# Altium footprint library PCB1.PcbLib: 18 footprints (part 1 of 2)
Each footprint in its own frame and in the unit in brackets; x right, y up, seen from the top. Pads: shape width x height; smd on the part's side, far side on the other; paste and mask are expansions set on the pad; w line width, h text height; cw(c..) or ccw(c..) is an arc to the next point about the centre after c.
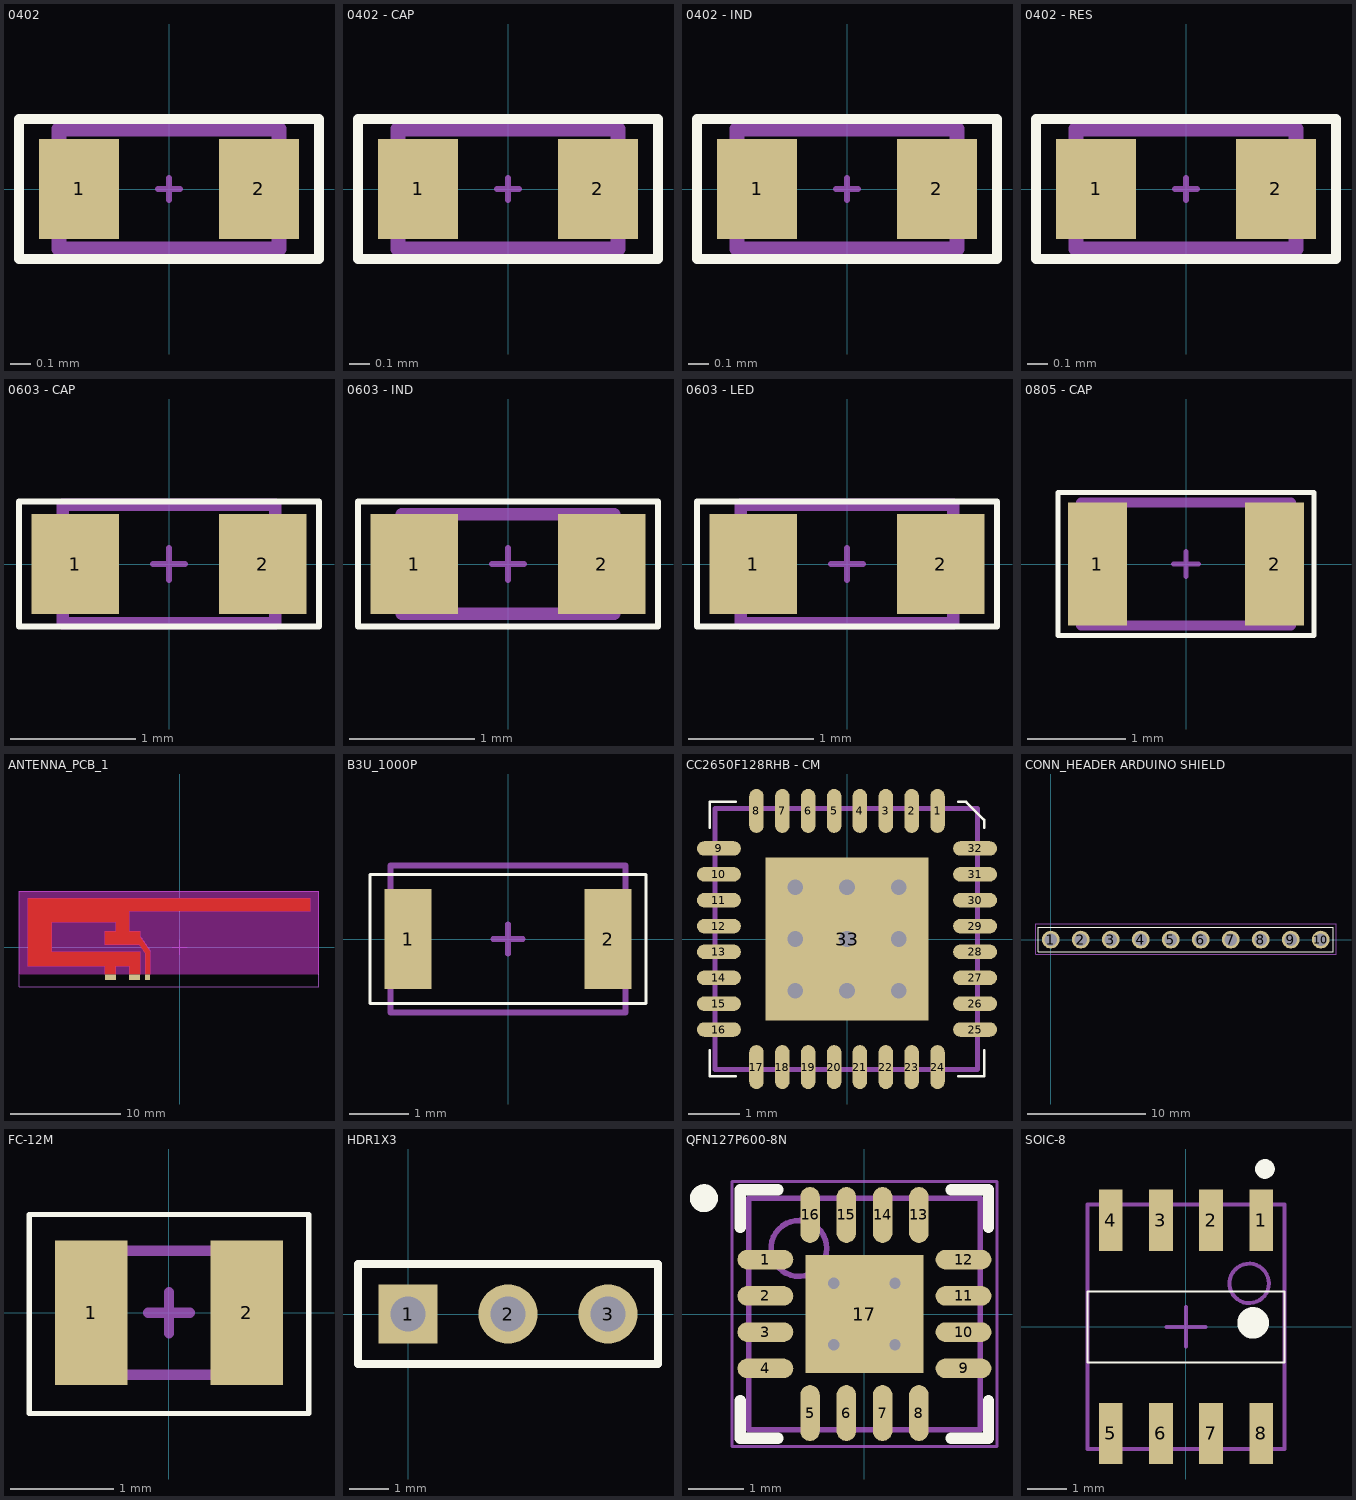
[diagram p0: the footprints below, top view; thin cyan lines are the x and y axes]

## 0402 [mm]
height 0.55
pads (2):
  rect 0.4x0.5 smd: 1(-0.45,0) 2(0.45,0)
Top Overlay:
  lines w0.051: -0.75,-0.35 -0.75,0.35 0.75,0.35 0.75,-0.35 -0.75,-0.35
Mechanical 13:
  lines w0.076: -0.55,-0.3 0.55,-0.3 0.55,0.3 -0.55,0.3 -0.55,-0.3
Mechanical 15:
  lines w0.03: -0.054,0 0.054,0 ; 0,-0.054 0,0.054

## 0402 - CAP [mm]
height 0.55
pads (2):
  rect 0.4x0.5 smd: 1(-0.45,0) 2(0.45,0)
Top Overlay:
  lines w0.051: -0.75,-0.35 -0.75,0.35 0.75,0.35 0.75,-0.35 -0.75,-0.35
Mechanical 13:
  lines w0.076: -0.55,-0.3 0.55,-0.3 0.55,0.3 -0.55,0.3 -0.55,-0.3
Mechanical 15:
  lines w0.03: -0.054,0 0.054,0 ; 0,-0.054 0,0.054
3D body: height 0.49, standoff -0.01, extent -0.5,-0.25 0.5,0.25

## 0402 - IND [mm]
height 0.55
pads (2):
  rect 0.4x0.5 smd: 1(-0.45,0) 2(0.45,0)
Top Overlay:
  lines w0.051: -0.75,-0.35 0.75,-0.35 0.75,0.35 -0.75,0.35 -0.75,-0.35
Mechanical 13:
  lines w0.076: -0.55,-0.3 -0.55,0.3 0.55,0.3 0.55,-0.3 -0.55,-0.3
Mechanical 15:
  lines w0.03: -0.054,0 0.054,0 ; 0,-0.054 0,0.054
3D body: height 0.49, standoff -0.01, extent -0.49,-0.249 0.51,0.251

## 0402 - RES [mm]
height 0.55
pads (2):
  rect 0.4x0.5 smd: 1(-0.45,0) 2(0.45,0)
Top Overlay:
  lines w0.051: -0.75,-0.35 0.75,-0.35 0.75,0.35 -0.75,0.35 -0.75,-0.35
Mechanical 13:
  lines w0.076: -0.55,-0.3 -0.55,0.3 0.55,0.3 0.55,-0.3 -0.55,-0.3
Mechanical 15:
  lines w0.03: -0.054,0 0.054,0 ; 0,-0.054 0,0.054
3D body: height 0.29, standoff -0.01, extent -0.5,-0.25 0.5,0.25

## 0603 - CAP [mm]
pads (2):
  rect 0.7x0.8 smd: 1(-0.75,0) 2(0.75,0)
Top Overlay:
  lines w0.051: -1.2,-0.5 -1.2,0.5 1.2,0.5 1.2,-0.5 -1.2,-0.5
Mechanical 13:
  lines w0.1: -0.85,-0.475 -0.85,0.475 0.85,0.475 0.85,-0.475 -0.85,-0.475
Mechanical 15:
  lines w0.048: -0.127,0 0.127,0 ; 0,-0.127 0,0.127
3D body: height 0.49, standoff -0.01, extent -0.825,-0.406 0.775,0.394

## 0603 - IND [mm]
pads (2):
  rect 0.7x0.8 smd: 1(-0.75,0) 2(0.75,0)
Top Overlay:
  lines w0.051: -1.2,-0.5 -1.2,0.5 1.2,0.5 1.2,-0.5 -1.2,-0.5
Mechanical 13:
  lines w0.1: -0.85,-0.4 -0.85,0.4 0.85,0.4 0.85,-0.4 -0.85,-0.4
Mechanical 15:
  lines w0.048: -0.127,0 0.127,0 ; 0,-0.127 0,0.127
3D body: height 0.79, standoff -0.01, extent -0.8,-0.4 0.8,0.4

## 0603 - LED [mm]
pads (2):
  rect 0.7x0.8 smd: 1(-0.75,0) 2(0.75,0)
Top Overlay:
  lines w0.051: -1.2,-0.5 -1.2,0.5 1.2,0.5 1.2,-0.5 -1.2,-0.5
Mechanical 13:
  lines w0.1: -0.85,-0.475 -0.85,0.475 0.85,0.475 0.85,-0.475 -0.85,-0.475
Mechanical 15:
  lines w0.048: -0.127,0 0.127,0 ; 0,-0.127 0,0.127
3D body: height 0.9, standoff 0, extent -0.85,-0.45 0.85,0.45

## 0805 - CAP [mm]
pads (2):
  rect 0.6x1.25 smd: 1(-0.9,0) 2(0.9,0)
Top Overlay:
  lines w0.051: -1.3,-0.725 -1.3,0.725 1.3,0.725 1.3,-0.725 -1.3,-0.725
Mechanical 13:
  lines w0.1: -1.067,-0.625 -1.067,0.625 1.067,0.625 1.067,-0.625 -1.067,-0.625
Mechanical 15:
  lines w0.048: -0.127,0 0.127,0 ; 0,-0.127 0,0.127
3D body: height 0.58, standoff -0.02, extent -0.988,-0.624 1.012,0.626

## ANTENNA_PCB_1 [mm]
pads (3):
  rect 0.46x0.5 smd paste-999: 1(-2.924,-2.71)
  rect 1x0.5 smd paste-999: 2(-4.104,-2.71)
  rect 1x0.5 smd paste-999 mask+0: 3(-6.304,-2.71)
Top Layer:
  region: -13.784,-1.72 -13.784,4.45 11.796,4.45 11.796,3.24 -4.604,3.24 -4.604,1.44 -3.604,1.44 -3.604,0.938 -2.694,-0.382 -2.694,-2.46 -3.154,-2.46 -3.154,-0.525 -3.675,0.23 -6.804,0.23 -6.804,1.44 -5.804,1.44 -5.804,2.24 -11.604,2.24 -11.604,-0.43 -3.604,-0.43 -3.604,-2.46 -4.604,-2.46 -4.604,-1.72 -5.804,-1.72 -5.804,-2.46 -6.804,-2.46 -6.804,-1.72
Keep-Out Layer:
  region: -11.604,-0.43 -3.604,-0.43 -3.604,-2.46 -3.154,-2.46 -3.154,-0.525 -3.675,0.23 -6.804,0.23 -6.804,1.44 -5.804,1.44 -5.804,2.24 -11.604,2.24
  pour cut-out: -5.804,-1.72 -5.804,-2.46 -4.604,-2.46 -4.604,-1.72
  region: -14.574,-2.46 -6.804,-2.46 -6.804,-1.72 -13.784,-1.72 -13.784,4.45 11.796,4.45 11.796,3.24 -4.604,3.24 -4.604,1.44 -3.604,1.44 -3.604,0.938 -2.694,-0.382 -2.694,-2.46 12.596,-2.46 12.596,5.05 -14.584,5.05
Mechanical 12:
  text "3" at -6.384,-2.71 h0.2
  text "2" at -4.184,-2.71 h0.2
  text "1" at -3.004,-2.71 h0.2
Mechanical 14:
  lines w0.025: -3.604,0.938 -2.694,-0.382
Mechanical 15:
  lines w0.025: -14.584,-3.56 -14.584,5.05 12.596,5.05 12.596,-3.56 -14.584,-3.56
  lines w0.1: -0.7,0 0.65,0 ; 0,-0.675 0,0.675
Mechanical 16:
  lines w0.025: -14.584,-3.56 12.596,-3.56 12.596,5.05 -14.584,5.05 -14.584,-3.56

## B3U_1000P [mm] "B3U_1000p omron"
pads (2):
  rect 0.8x1.7 smd: 1(-1.7,0) 2(1.7,0)
Top Overlay:
  lines w0.051: -2.35,-1.1 2.35,-1.1 2.35,1.1 -2.35,1.1 -2.35,-1.1
Mechanical 13:
  lines w0.1: -2,-1.25 2,-1.25 2,1.25 -2,1.25 -2,-1.25
Mechanical 15:
  lines w0.1: -0.25,0 0.25,0 ; 0,-0.25 0,0.25
3D body: height 1.6, standoff 0, extent -2,-1.25 2,1.25

## CC2650F128RHB - CM [mm]
pads (33):
  oval 0.28x0.85 smd: 1(1.75,2.475) 2(1.25,2.475) 3(0.75,2.475) 4(0.25,2.475) 5(-0.25,2.475) 6(-0.75,2.475) 7(-1.25,2.475) 8(-1.75,2.475) 17(-1.75,-2.475) 18(-1.25,-2.475) 19(-0.75,-2.475) 20(-0.25,-2.475) 21(0.25,-2.475) 22(0.75,-2.475) 23(1.25,-2.475) 24(1.75,-2.475)
  oval 0.85x0.28 smd: 9(-2.475,1.75) 10(-2.475,1.25) 11(-2.475,0.75) 12(-2.475,0.25) 13(-2.475,-0.25) 14(-2.475,-0.75) 15(-2.475,-1.25) 16(-2.475,-1.75) 25(2.475,-1.75) 26(2.475,-1.25) 27(2.475,-0.75) 28(2.475,-0.25) 29(2.475,0.25) 30(2.475,0.75) 31(2.475,1.25) 32(2.475,1.75)
  rect 3.15x3.15 smd: 33(0,0)
via -1,1 diameter 0.5 hole 0.3
via -1,0 diameter 0.5 hole 0.3
via -1,-1 diameter 0.5 hole 0.3
via 0,-1 diameter 0.5 hole 0.3
via 1,-1 diameter 0.5 hole 0.3
via 1,0 diameter 0.5 hole 0.3
via 1,1 diameter 0.5 hole 0.3
via 0,1 diameter 0.5 hole 0.3
via 0,0 diameter 0.5 hole 0.3
Top Overlay:
  lines w0.051: -2.65,-2.15 -2.65,-2.65 -2.15,-2.65 ; -2.65,2.15 -2.65,2.65 -2.15,2.65 ; 2.15,-2.65 2.65,-2.65 2.65,-2.15 ; 2.15,2.65 2.3,2.65 2.65,2.3 2.65,2.15
Mechanical 13:
  lines w0.1: -2.55,-2.525 -2.55,2.525 2.525,2.525 2.525,-2.525 -2.55,-2.525
Mechanical 15:
  lines w0.1: -0.4,0 0.4,0 ; 0,-0.4 0,0.4
3D body: height 1, standoff 0, extent -2.54,-2.54 2.54,2.54

## CONN_HEADER ARDUINO SHIELD [mm]
pads (10):
  round 1.5 hole 1.05: 1(0,0) 2(2.54,0) 3(5.08,0) 4(7.62,0) 5(10.16,0) 6(12.7,0) 7(15.24,0) 8(17.78,0) 9(20.32,0) 10(22.86,0)
Top Overlay:
  lines w0.051: -1.075,-1.05 23.925,-1.05 23.925,1.05 -1.075,1.05 -1.075,-1.05
Mechanical 13:
  lines w0.1: -1.25,-1.225 -1.25,1.325 24.15,1.325 24.15,-1.225 -1.25,-1.225
Mechanical 15:
  lines w0.1: -0.675,0 0.675,0 ; 0,-0.675 0,0.675

## FC-12M [mm]
pads (2):
  rect 0.7x1.4 smd: 1(-0.75,0) 2(0.75,0)
Top Overlay:
  lines w0.051: -1.35,-0.975 1.35,-0.975 1.35,0.95 -1.35,0.95 -1.35,-0.975
Mechanical 13:
  lines w0.1: -1.025,-0.6 -1.025,0.6 1.025,0.6 1.025,-0.6 -1.025,-0.6
Mechanical 15:
  lines w0.1: -0.2,0 0.2,0 ; 0,-0.2 0,0.2
3D body: height 0.6, standoff 0, extent -1.025,-0.6 1.025,0.6

## HDR1X3 [mm] "Connector; Header; 3 Position"
height 5.2
pads (3):
  rect 1.5x1.5 hole 0.9: 1(0,0)
  round 1.5 hole 0.9: 2(2.54,0) 3(5.08,0)
Top Overlay:
  lines w0.2: -1.27,-1.27 -1.27,1.27 6.35,1.27 6.35,-1.27 -1.27,-1.27

## QFN127P600-8N [mm]
height 1
pads (17):
  oval 1x0.35 smd: 1(-1.775,0.975) 2(-1.775,0.325) 3(-1.775,-0.325) 4(-1.775,-0.975) 9(1.775,-0.975) 10(1.775,-0.325) 11(1.775,0.325) 12(1.775,0.975)
  oval 0.35x1 smd: 5(-0.975,-1.775) 6(-0.325,-1.775) 7(0.325,-1.775) 8(0.975,-1.775) 13(0.975,1.775) 14(0.325,1.775) 15(-0.325,1.775) 16(-0.975,1.775)
  rect 2.11x2.11 smd: 17(0,0)
via -0.55,0.55 diameter 0.5 hole 0.2
via 0.55,0.55 diameter 0.5 hole 0.2
via -0.55,-0.55 diameter 0.5 hole 0.2
via 0.55,-0.55 diameter 0.5 hole 0.2
Top Overlay:
  circle w0.25: c-2.875,2.075 r0.125
  lines w0.2: -2.225,-1.55 -2.225,-2.225 -1.55,-2.225 ; -2.225,1.55 -2.225,2.225 -1.55,2.225 ; 1.55,-2.225 2.225,-2.225 2.225,-1.55 ; 1.55,2.225 2.225,2.225 2.225,1.55
Mechanical 13:
  circle w0.1: c-1.175,1.175 r0.5
  lines w0.1: -2.075,-2.075 -2.075,2.075 2.075,2.075 2.075,-2.075 -2.075,-2.075
Mechanical 15:
  lines w0.05: -2.375,-2.375 -2.375,2.375 2.375,2.375 2.375,-2.375 -2.375,-2.375
  lines w0.1: -0.5,0 0.5,0 ; 0,-0.5 0,0.5
3D body: height 1, standoff 0.08, extent -2.075,-2.075 2.075,2.075

## SOIC-8 [mm]
pads (8):
  rect 0.6x1.55 smd: 1(1.905,2.7) 2(0.635,2.7) 3(-0.635,2.7) 4(-1.905,2.7) 5(-1.905,-2.7) 6(-0.635,-2.7) 7(0.635,-2.7) 8(1.905,-2.7)
Top Overlay:
  circle w0.4: c1.7,0.1 r0.2
  circle w0.25: c2,4 r0.125
  lines w0.051: -2.5,-0.9 -2.5,0.9 2.5,0.9 2.5,-0.9 -2.5,-0.9
Mechanical 13:
  circle w0.1: c1.6,1.1 r0.5
  lines w0.1: -2.5,-3.1 -2.5,3.1 2.5,3.1 2.5,-3.1 -2.5,-3.1
Mechanical 15:
  lines w0.1: -0.5,0 0.5,0 ; 0,-0.5 0,0.5
3D body: height 1.75, standoff -0.01, extent -2.5,-3.1 2.5,3.1